# Altium integrated library TS3USB221.IntLib: 1 symbol
Pins are listed as number, name and electrical type; pins without a type are passive.

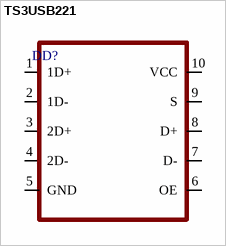
[diagram p0: symbol TS3USB221]

## TS3USB221
designator DD?
footprint TS3USB221
pins: 1 1D+, 2 1D-, 3 2D+, 4 2D-, 5 GND, 6 OE, 7 D-, 8 D+, 9 S, 10 VCC